# Altium integrated library Diodes Incorporated Diodes.IntLib: 1 symbol
Pins are listed as number, name and electrical type; pins without a type are passive.

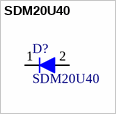
[diagram p0: symbol SDM20U40]

## SDM20U40
designator D?
Surface Mount Schottky Barrier Diode; Manufacturer: Diode Incorporated; PartNumber: SDM20U40; Package: SOD-523; Supplier 1: Digi-Key; Supplier Part Number 1: SDM20U40-7DITR-ND; PackageDescription: Small Outline Diode
footprint SOD-523-2M (SOD, 2-Leads, Body 1.2x0.8mm, IPC High Density)
footprint SOD-523-2N (SOD, 2-Leads, Body 1.2x0.8mm, IPC Medium Density)
pins: 1 A, 2 K